# Altium footprint library Mechanical.PcbLib: 18 footprints (part 1 of 2)
Each footprint in its own frame and in the unit in brackets; x right, y up, seen from the top. Pads: shape width x height; smd on the part's side, far side on the other; paste and mask are expansions set on the pad; w line width, h text height; cw(c..) or ccw(c..) is an arc to the next point about the centre after c.
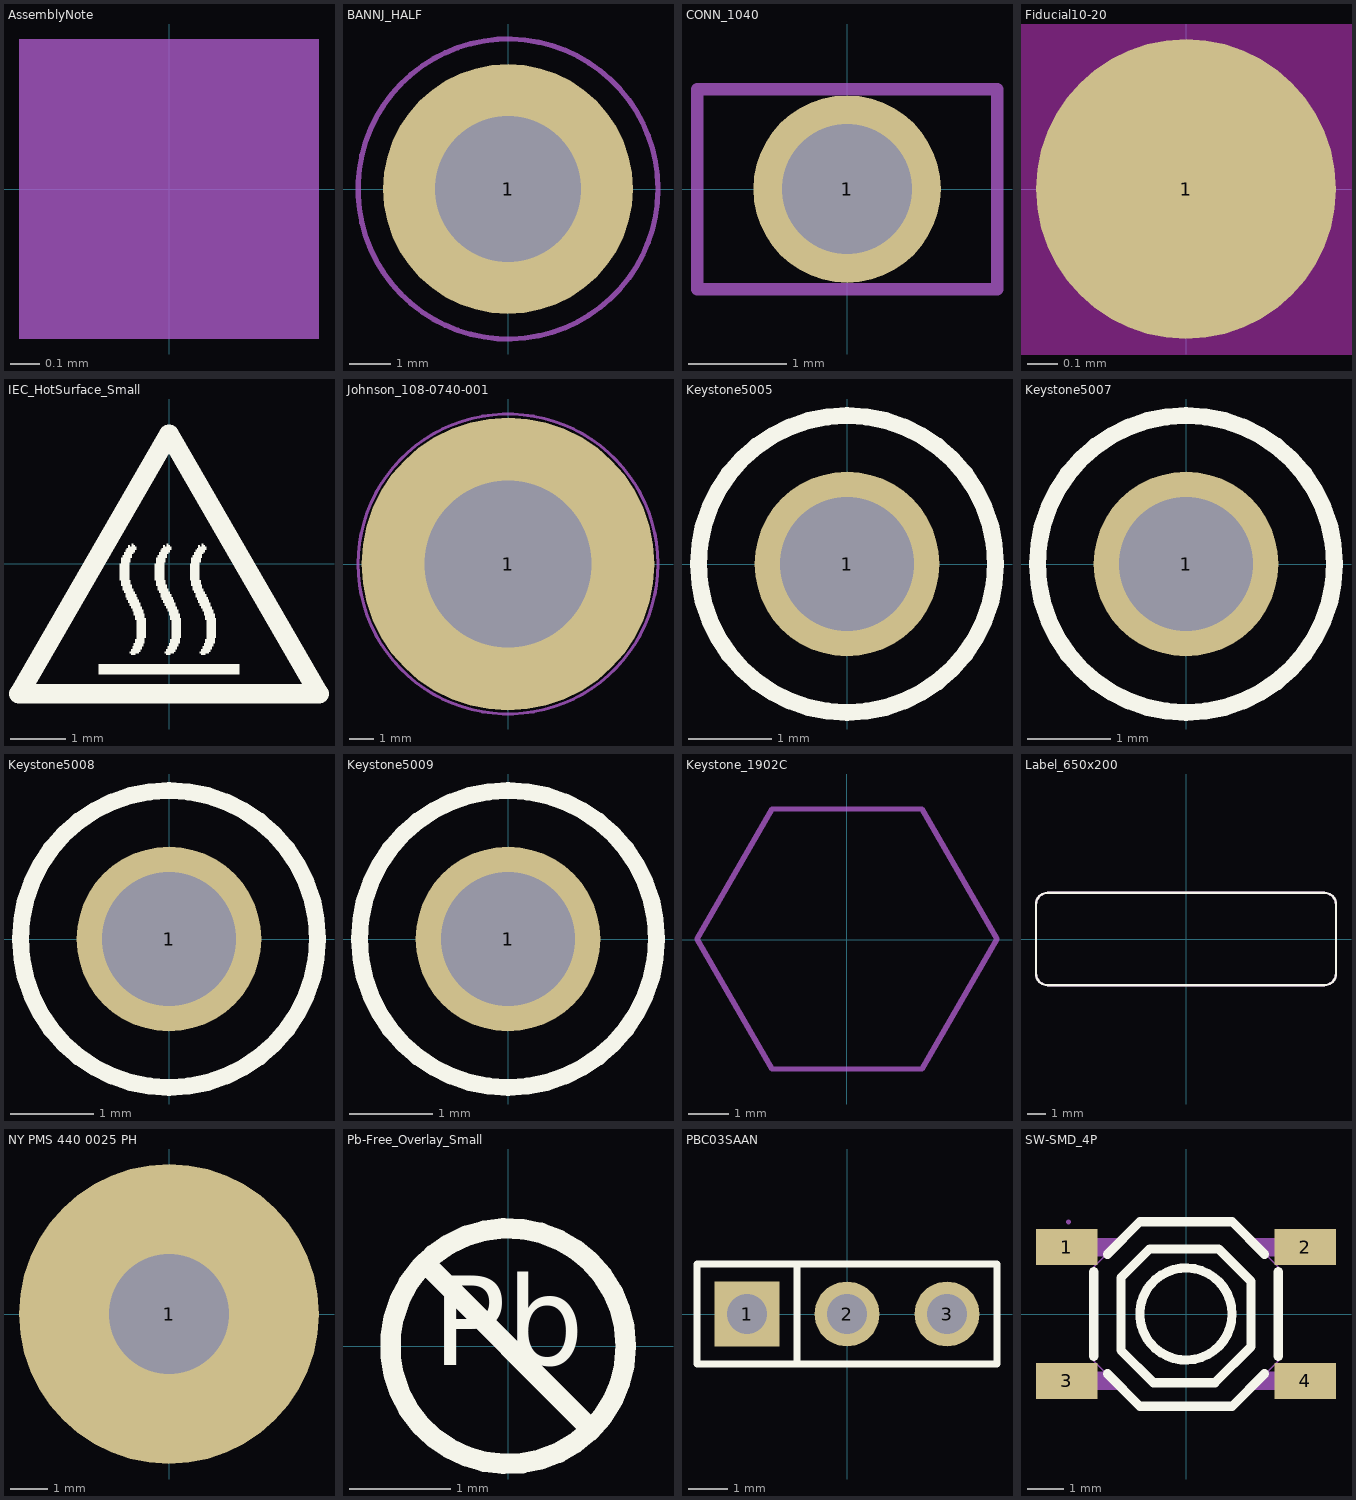
[diagram p0: the footprints below, top view; thin cyan lines are the x and y axes]

## AssemblyNote [mm]
Mechanical 5:
  rectangle: -0.508,-0.508 0.508,0.508
  text ".Comment" at 1.143,-0.508 h1.02
  text ".Designator" at -4.191,-0.508 h1.02

## BANNJ_HALF [mm]
pads (1):
  round 6 hole 3.5: 1(0,0)
Mechanical 5:
  circle w0.127: c0,0 r3.6
  text ".Designator" at -1.397,-0.762 h1.52

## CONN_1040 [mil]
pads (1):
  round 75 hole 52: 1(0,0)
Mechanical 5:
  lines w5: -60,-40 -60,40 60,40 60,-40 -60,-40
  text ".Designator" at -50,-10 h25
3D body "Keystone_1040.stp": height 275.6, standoff -114.4, extent -55,-12.5 55,12.5

## Fiducial10-20 [mm]
pads (1):
  round 1 smd mask+0.5: 1(0,0)
Top Layer keep-out:
  circle w1.178: c0,0 r0.5

## IEC_HotSurface_Small [mm]
Top Overlay:
  drawing of 10 lines, arcs and shapes, not listed

## Johnson_108-0740-001 [mm]
pads (1):
  round 12 hole 6.858: 1(0,0)
Mechanical 5:
  circle w0.127: c0,0 r6.143
  text ".Designator" at -1.397,-0.762 h1.52
3D body "Johnson_108-0740-001.stp": height 2.39, standoff -13.49, extent -4.775,-5.425 4.745,5.568

## Keystone5005 [mil]
pads (1):
  round 87 hole 63: 1(0,0)
Top Overlay:
  circle w7.99: c0,0 r70
Mechanical 5:
  circle w5: c0,0 r70.71
  text ".Designator" at -55,-15 h30
3D body "Keystone_5005.stp": height 225.2, standoff -129.92, extent -63,-63 62.49,62.74

## Keystone5007 [mil]
pads (1):
  round 87 hole 63: 1(0,0)
Top Overlay:
  circle w7.99: c0,0 r70
Mechanical 5:
  circle w5: c0,0 r70.71
  text ".Designator" at -55,-15 h30
3D body "Keystone_5007.stp": height 225.2, standoff -129.92, extent -63,-63 62.49,62.74

## Keystone5008 [mil]
pads (1):
  round 87 hole 63: 1(0,0)
Top Overlay:
  circle w7.99: c0,0 r70
Mechanical 5:
  circle w5: c0,0 r70.71
  text ".Designator" at -55,-15 h30
3D body "Keystone_5008.stp": height 225.2, standoff -129.92, extent -63,-63 62.49,62.74

## Keystone5009 [mil]
pads (1):
  round 87 hole 63: 1(0,0)
Top Overlay:
  circle w7.99: c0,0 r70
Mechanical 5:
  circle w5: c0,0 r70.71
  text ".Designator" at -55,-15 h30
3D body "Keystone_5009.stp": height 225.2, standoff -129.92, extent -63,-63 62.49,62.74

## Keystone_1902C [mm]
Mechanical 5:
  lines w0.127: -3.69,0.012 -1.843,3.212 1.852,3.212 3.7,0.012 1.852,-3.188 -1.843,-3.188 -3.69,0.012
  text ".Designator" at -1.524,-0.508 h1.02
3D body "Keystone_1902C.stp": height 12.73, standoff 0.03, extent -3.682,-3.2 3.708,3.2

## Label_650x200 [mm]
Top Overlay:
  lines w0.127: -8.255,-1.905 ccw(c-7.62,-1.905) -7.62,-2.54 7.62,-2.54 ccw(c7.62,-1.905) 8.255,-1.905 8.255,1.905 ccw(c7.62,1.905) 7.62,2.54 -7.62,2.54 ccw(c-7.62,1.905) -8.255,1.905 -8.255,-1.905
Mechanical 5:
  lines w0.127: -8.255,-1.905 ccw(c-7.62,-1.905) -7.62,-2.54 7.62,-2.54 ccw(c7.62,-1.905) 8.255,-1.905 8.255,1.905 ccw(c7.62,1.905) 7.62,2.54 -7.62,2.54 ccw(c-7.62,1.905) -8.255,1.905 -8.255,-1.905
  text ".Designator" at -1.524,-0.508 h1.02
3D body: height 0.03, standoff 0, extent -8.256,-2.541 8.256,2.541

## NY PMS 440 0025 PH [mm]
pads (1):
  round 8 hole 3.2: 1(0,0)
Mechanical 5:
  circle w0.127: c0,0 r3.789
  text ".Designator" at -1.524,-0.508 h1.02
3D body "B_F_NY PMS 440 0025 PH.stp": height 2.69, standoff -8.74, extent -3.302,-3.3 3.296,3.3

## Pb-Free_Overlay_Small [mm]
Top Overlay:
  circle w0.203: c0,0 r1.168
  lines w0.203: -0.826,0.826 0.826,-0.826
  text "Pb" at -0.752,-0.48 h1.52

## PBC03SAAN [mm]
pads (3):
  rect 1.65x1.65 hole 1.016: 1(-2.54,0)
  round 1.65 hole 1.016: 2(0,0) 3(2.54,0)
Top Overlay:
  lines w0.178: -1.27,-1.27 -1.27,1.27 ; -3.81,-1.27 3.81,-1.27 3.81,1.27 -3.81,1.27 -3.81,-1.27
Mechanical 5:
  rectangle: -3.048,-0.508 -2.032,0.508
  lines w0.127: -3.81,-1.27 3.81,-1.27 3.81,1.27 -3.81,1.27 -3.81,-1.27
  text ".Designator" at -0.88,-0.535 h1.02
3D body "SullinsPBC03SAAN.stp": height 8.38, standoff -3.05, extent -3.81,-1.27 3.81,1.27

## SW-SMD_4P [mm]
pads (4):
  rect 1.7x1 smd: 1(-3.3,1.85) 2(3.3,1.85) 3(-3.3,-1.85) 4(3.3,-1.85)
Top Overlay:
  circle w0.254: c0,0 r1.275
  lines w0.254: -2.55,-1.168 -2.55,1.168 ; -2.17,-1.655 -1.275,-2.55 1.275,-2.55 2.17,-1.655 ; -2.17,1.655 -1.275,2.55 1.275,2.55 2.17,1.655 ; 2.55,-1.168 2.55,1.168 ; -1.801,-0.998 -0.899,-1.9 0.8,-1.9 1.801,-0.899 1.801,0.899 0.899,1.801 -1.001,1.801 -1.801,1.001 -1.801,-0.998
Mechanical 15:
  region: -3.19,2.55 -3.19,2.575 -3.225,2.61 -3.275,2.61 -3.31,2.575 -3.31,2.55 -3.31,2.525 -3.275,2.49 -3.225,2.49 -3.19,2.525
  region: 2.85,-2.1 2.85,-1.6 3.25,-1.6 3.25,-2.1
  region: 2.2,1.6 1.7,2.1 2.86,2.1 2.86,1.6
  region: 2.85,1.6 2.85,2.1 3.25,2.1 3.25,1.6
  region: -3.25,1.599 -3.25,2.099 -2.85,2.099 -2.85,1.599
  region: -3.25,-2.1 -3.25,-1.6 -2.85,-1.6 -2.85,-2.1
  region: -2.2,-1.6 -1.7,-2.1 -2.86,-2.1 -2.86,-1.6
  region: 2.201,-1.601 1.701,-2.101 2.861,-2.101 2.861,-1.601
  region: -2.2,1.599 -1.7,2.099 -2.86,2.1 -2.86,1.6
  lines w0.051: -2.55,-1.3 -1.3,-2.55 1.3,-2.55 2.55,-1.3 2.55,1.3 1.3,2.55 -1.3,2.55 -2.55,1.3 -2.55,-1.3
3D body "C318884_SW-SMD_4P-L5.2-W5.2-H1.5-LS6.4-P3.70.step": height 1.5, standoff -0.05, extent -3.2,-2.601 3.2,2.6